# EAGLE library part LT8672 (library PP_PowerIC)
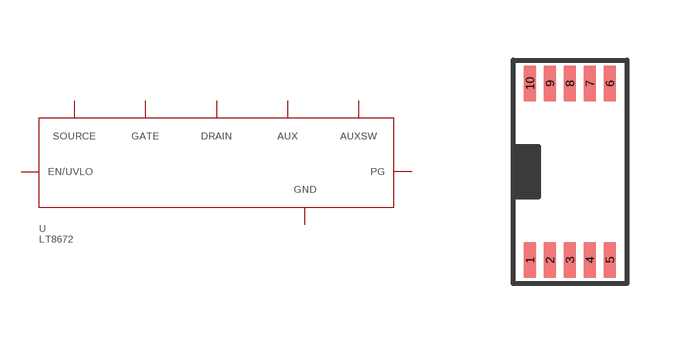
[diagram p16: symbol with the pads of LT8672_MSOP-10; footprint LT8672_MSOP-10]

Designator prefix U

## LT8672EMS#PBF  [LT8672_MSOP-10]
1  EN/UVLO
2  GND
3  PG
4  GND
6  AUXSW
7  AUX
8  DRAIN
9  SOURCE
10  GATE

## Footprint LT8672_MSOP-10 (pad centres in mm)
smd 0.305 x 0.889: 1 -1,-2.209; 2 -0.5,-2.209; 3 0,-2.209; 4 0.5,-2.209; 5 1,-2.209; 6 1,2.209; 7 0.5,2.209; 8 0,2.209; 9 -0.5,2.209; 10 -1,2.209